# EAGLE library part ADS1115 (library drag-semiconductors)
ADS1115 16bit ADC + PGA Datasheet <https://www.ti.com/lit/ds/sbas444d/sbas444d.pdf?ts=1600789213033&ref_url=https%253A%252F%252Fwww.google.com%252F>
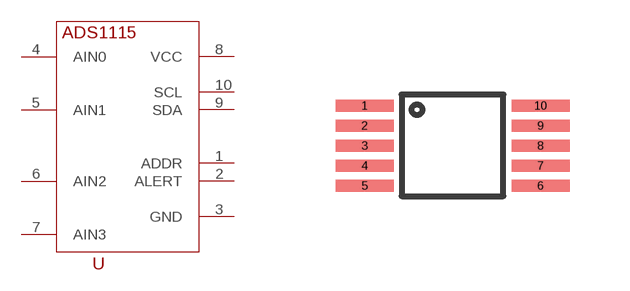
[diagram p8: symbol with the pads of ADS1115; footprint ADS1115]

Designator prefix U

## ADS1115  [ADS1115]
1  ADDR
2  ALERT
3  GND
4  AIN0
5  AIN1
6  AIN2
7  AIN3
8  VCC
9  SDA
10  SCL

## Footprint ADS1115 (pad centres in mm)
smd 1.45 x 0.3: 1 -2.2,0.73; 2 -2.2,0.23; 3 -2.2,-0.27; 4 -2.2,-0.77; 5 -2.2,-1.27; 6 2.2,-1.27; 7 2.2,-0.77; 8 2.2,-0.27; 9 2.2,0.23; 10 2.2,0.73